# EAGLE library part RPI_CON (library lib_test)
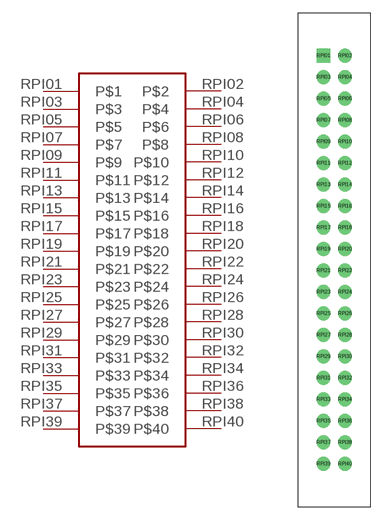
[diagram p1: symbol with the pads of RPI_CON; footprint RPI_CON]

Designator prefix RPC

## RPI_CON  [RPI_CON]
RPI01  P$1
RPI02  P$2
RPI03  P$3
RPI04  P$4
RPI05  P$5
RPI06  P$6
RPI07  P$7
RPI08  P$8
RPI09  P$9
RPI10  P$10
RPI11  P$11
RPI12  P$12
RPI13  P$13
RPI14  P$14
RPI15  P$15
RPI16  P$16
RPI17  P$17
RPI18  P$18
RPI19  P$19
RPI20  P$20
RPI21  P$21
RPI22  P$22
RPI23  P$23
RPI24  P$24
RPI25  P$25
RPI26  P$26
RPI27  P$27
RPI28  P$28
RPI29  P$29
RPI30  P$30
RPI31  P$31
RPI32  P$32
RPI33  P$33
RPI34  P$34
RPI35  P$35
RPI36  P$36
RPI37  P$37
RPI38  P$38
RPI39  P$39
RPI40  P$40

## Footprint RPI_CON (pad centres in mm)
drill 1.1 square: RPI01 -1.27,24.13
drill 1.1: RPI02 1.27,24.13; RPI03 -1.27,21.59; RPI04 1.27,21.59; RPI05 -1.27,19.05; RPI06 1.27,19.05; RPI07 -1.27,16.51; RPI08 1.27,16.51; RPI09 -1.27,13.97; RPI10 1.27,13.97; RPI11 -1.27,11.43; RPI12 1.27,11.43; RPI13 -1.27,8.89; RPI14 1.27,8.89; RPI15 -1.27,6.35; RPI16 1.27,6.35; RPI17 -1.27,3.81; RPI18 1.27,3.81; RPI19 -1.27,1.27; RPI20 1.27,1.27; RPI21 -1.27,-1.27; RPI22 1.27,-1.27; RPI23 -1.27,-3.81; RPI24 1.27,-3.81; RPI25 -1.27,-6.35; RPI26 1.27,-6.35; RPI27 -1.27,-8.89; RPI28 1.27,-8.89; RPI29 -1.27,-11.43; RPI30 1.27,-11.43; RPI31 -1.27,-13.97; RPI32 1.27,-13.97; RPI33 -1.27,-16.51; RPI34 1.27,-16.51; RPI35 -1.27,-19.05; RPI36 1.27,-19.05; RPI37 -1.27,-21.59; RPI38 1.27,-21.59; RPI39 -1.27,-24.13; RPI40 1.27,-24.13